# Altium schematic symbol library 293D106X9010C2TE3.SchLib: 1 symbol
Pins are listed as number, name and electrical type; pins without a type are passive.

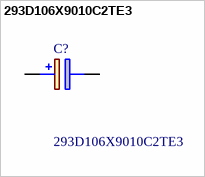
[diagram p0: symbol 293D106X9010C2TE3]

## 293D106X9010C2TE3
designator C?
Solid Tantalum Surface Mount Chip Capacitors TANTAMOUNT(TM), Molded Case, Standard Industrial Grade; Manufacturer_Name: Vishay; Geometry.Height: 2.8mm; Manufacturer_Part_Number: 293D106X9010C2TE3; Mouser Part Number: 74-293D106X9010C2TE3; Mouser Price/Stock: https://www.mouser.co.uk/ProductDetail/Vishay-Sprague/293D106X9010C2TE3?qs=Fp01vWGAG3pfp%2FN4ElsWcw%3D%3D; Arrow Part Number: 293D106X9010C2TE3; Arrow Price/Stock: https://www.arrow.com/en/products/293d106x9010c2te3/vishay; Datasheet Link: http://www.vishay.com/docs/40002/293d.pdf
footprint CAPPM6032X280N
pins: 1 +, 2 -